# Altium footprint library HEIMDALL-DEVPICKIT-V2.2.PcbLib: 22 footprints (part 2 of 2)
Each footprint in its own frame and in the unit in brackets; x right, y up, seen from the top. Pads: shape width x height; smd on the part's side, far side on the other; paste and mask are expansions set on the pad; w line width, h text height; cw(c..) or ccw(c..) is an arc to the next point about the centre after c.
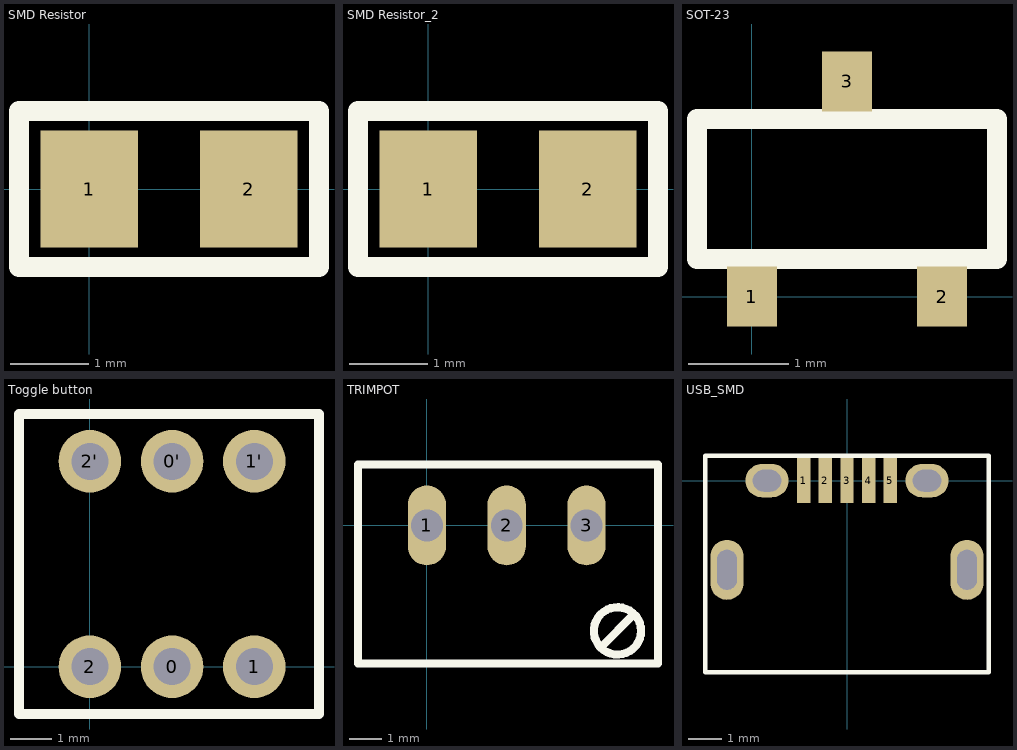
[diagram p1: the footprints below, top view; thin cyan lines are the x and y axes]

## SMD Resistor [mm]
pads (2):
  rect 1.25x1.5 smd: 1(0,0) 2(2.05,0)
Top Overlay:
  lines w0.254: -0.9,-1 -0.9,1 2.95,1 2.95,-1 -0.9,-1
3D body "RES_2013-0805.step": height 0.76, standoff 0, extent -0.125,-0.675 2.175,0.675

## SMD Resistor_2 [mm]
pads (2):
  rect 1.25x1.5 smd: 1(0,0) 2(2.05,0)
Top Overlay:
  lines w0.254: -0.9,-1 -0.9,1 2.95,1 2.95,-1 -0.9,-1
3D body "RES_2013-0805.step": height 0.76, standoff 0, extent -0.125,-0.675 2.175,0.675

## SOT-23 [mm]
pads (3):
  rect 0.5x0.6 smd: 1(0,0) 2(1.9,0) 3(0.95,2.15)
Top Overlay:
  lines w0.2: -0.55,0.375 -0.55,1.775 2.45,1.775 2.45,0.375 -0.55,0.375
3D body: height 0.25, standoff 0, extent -1.85,0.3 -1.85,0.3
3D body "CircuitWorks-SOT-23.step": height 1.05, standoff -0.05, extent -0.55,-0.175 2.45,2.325

## Toggle button [mm]
pads (6):
  round 1.524 hole 0.9: 0(2,0) 0'(2,5) 1(4,0) 1'(4,5) 2(0,0) 2'(0,5)
Top Overlay:
  lines w0.254: -1.725,-1.15 -1.725,6.15 5.575,6.15 5.575,-1.15 -1.725,-1.15
3D body "toggle button 7x7.STEP": height 12.1, standoff -3.5, extent -1.575,-1 5.425,6

## TRIMPOT [mm]
pads (3):
  oval 1.2x2.5 hole 1: 1(0,0) 2(2.5,0) 3(5,0)
Top Overlay:
  circle w0.254: c5.969,-3.302 r0.741
  lines w0.254: 5.461,-3.81 6.477,-2.794 ; -2.159,-4.318 -2.159,1.905 -1.27,1.905 6.223,1.905 7.239,1.905 7.239,-4.318 -2.159,-4.318
Mechanical 29:
  text "'.Designator'" at -0.1,-3.4 h1.6
3D body "User Library-3299W-1-103RLF.step": height 11.56, standoff -6.22, extent -2.222,-4.318 7.303,1.778

## USB_SMD [mm]
pads (9):
  rect 0.4x1.35 smd: 1(-1.3,0) 2(-0.65,0) 3(0,0) 4(0.65,0) 5(1.3,0)
  oval 1x1.8 hole 1.2 slot 0.6 at 0 deg: ""(-3.6,-2.675) ""(3.6,-2.675)
  oval 1.3x1 hole 0.65 slot 0.85 at 0 deg: ""(-2.4,0) ""(2.4,0)
Top Overlay:
  lines w0.127: -4.25,-5.75 -4.25,0.75 4.25,0.75 4.25,-5.25 4.25,-5.75 -4.25,-5.75
3D body "MicroUSB-B_Molex_105017-0001.step": height 2.68, standoff -0.63, extent -4.1,-5.28 4.1,0.15